# EAGLE library part 10DOF-WAVESHARE (library macrocketry_2019)
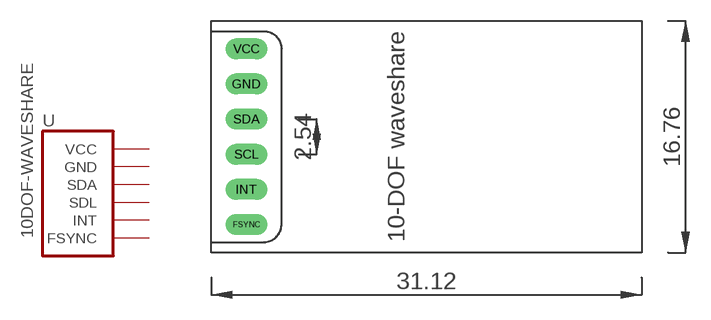
[diagram p0: symbol with the pads of 10DOF-WAVESHARE; footprint 10DOF-WAVESHARE]

Designator prefix -

## 10DOF-WAVESHARE  [10DOF-WAVESHARE]
FSYNC  FSYNC  pas
GND  GND  pas
INT  INT  pas
SCL  SDL  pas
SDA  SDA  pas
VCC  VCC  pas

## Footprint 10DOF-WAVESHARE (pad centres in mm)
drill 1 long: FSYNC -13.97,-6.35; GND -13.97,3.81; INT -13.97,-3.81; SCL -13.97,-1.27; SDA -13.97,1.27; VCC -13.97,6.35